# EAGLE library part 50238-012 (library con-aces-50238-series)
ACES CONNECTORS 50238 SERIES ACES Connecors 50238 <https://www.acesconn.com/tw/series/50238-xxxxx-xxx/1290>
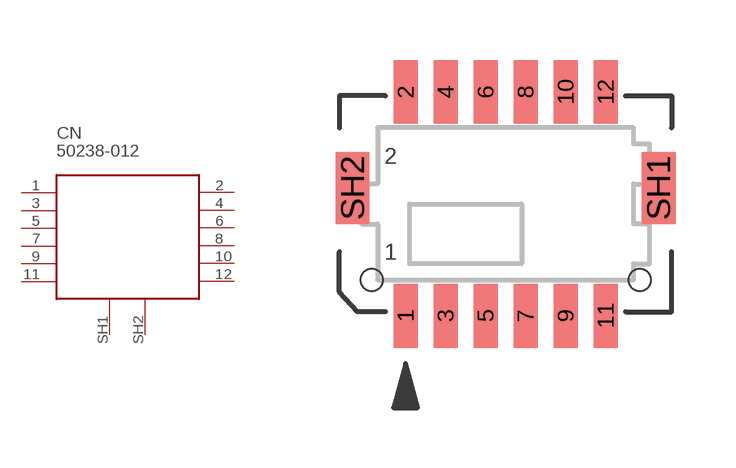
[diagram p2: symbol with the pads of 50238-012; footprint 50238-012]

Designator prefix CN

## 50238-012  [50238-012]
1  1
2  2
3  3
4  4
5  5
6  6
7  7
8  8
9  9
10  10
11  11
12  12
SH1  SH1
SH2  SH2

## Footprint 50238-012 (pad centres in mm)
smd 0.6 x 1.6: 1 -2.5,-2.8; 2 -2.5,2.8; 3 -1.5,-2.8; 4 -1.5,2.8; 5 -0.5,-2.8; 6 -0.5,2.8; 7 0.5,-2.8; 8 0.5,2.8; 9 1.5,-2.8; 10 1.5,2.8; 11 2.5,-2.8; 12 2.5,2.8
smd 0.85 x 1.8: SH1 3.825,0.4; SH2 -3.825,0.4
hole 0.55 at -3.35,-1.9
hole 0.55 at 3.35,-1.9